# EAGLE library part LL2811 (library lundahl)
LL2811 Transformer
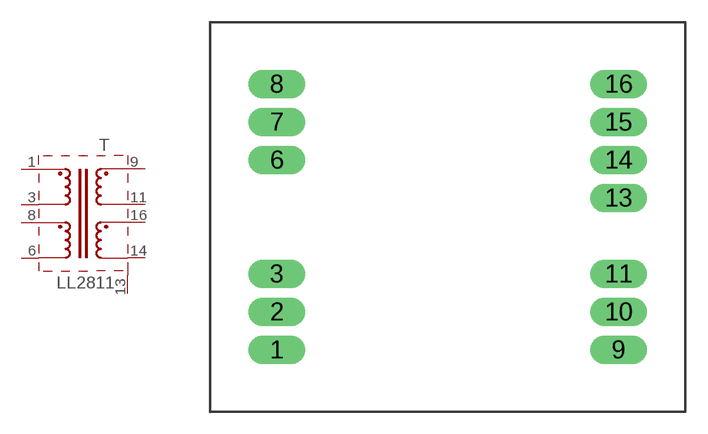
[diagram p16: symbol with the pads of LL2811; footprint LL2811]

Designator prefix T

## LL2811  [LL2811]
1  1  pas
3  3  pas
6  6  pas
8  8  pas
9  9  pas
11  11  pas
13  13  pas
14  14  pas
16  16  pas

## Footprint LL2811 (pad centres in mm)
LL2811
drill 1.27 pad 1.905 long: 1 -17.78,-12.7; 2 -17.78,-10.16; 3 -17.78,-7.62; 6 -17.78,0; 7 -17.78,2.54; 8 -17.78,5.08; 9 5.08,-12.7; 10 5.08,-10.16; 11 5.08,-7.62; 13 5.08,-2.54; 14 5.08,0; 15 5.08,2.54; 16 5.08,5.08